# Altium integrated library 796638-3.IntLib: 1 symbol
Pins are listed as number, name and electrical type; pins without a type are passive.

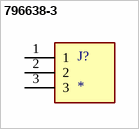
[diagram p0: symbol 796638-3]

## 796638-3
designator J?
3 Position Terminal Block Header, Male Pins, Shrouded (4 Side) 0.200 (5.08mm) 90Â°, Right Angle Through Hole; Number_of_Positions: 3; Centerline_Pitch: 5.08 mm[.2 in]; MF: TE Connectivity; MP: 796638-3; SnapEDA_Link: https://www.snapeda.com/parts/796638-3/TE%20Connectivity%20AMP%20Connectors/view-part/586875/?ref=snap; EU_RoHS_Compliance: Compliant; Purchase-URL: https://pricing.snapeda.com/search/part/796638-3/?ref=eda; Value: *; Check_prices: https://www.snapeda.com/parts/796638-3/TE%20Connectivity%20AMP%20Connectors/view-part/586875/?ref=eda; Availability: Good; Price: None; Package: None
footprint TE_796638-3
pins: 1, 2, 3